# Altium footprint library con-shallin.PCBLIB: 1 footprints
Each footprint in its own frame and in the unit in brackets; x right, y up, seen from the top. Pads: shape width x height; smd on the part's side, far side on the other; paste and mask are expansions set on the pad; w line width, h text height; cw(c..) or ccw(c..) is an arc to the next point about the centre after c.
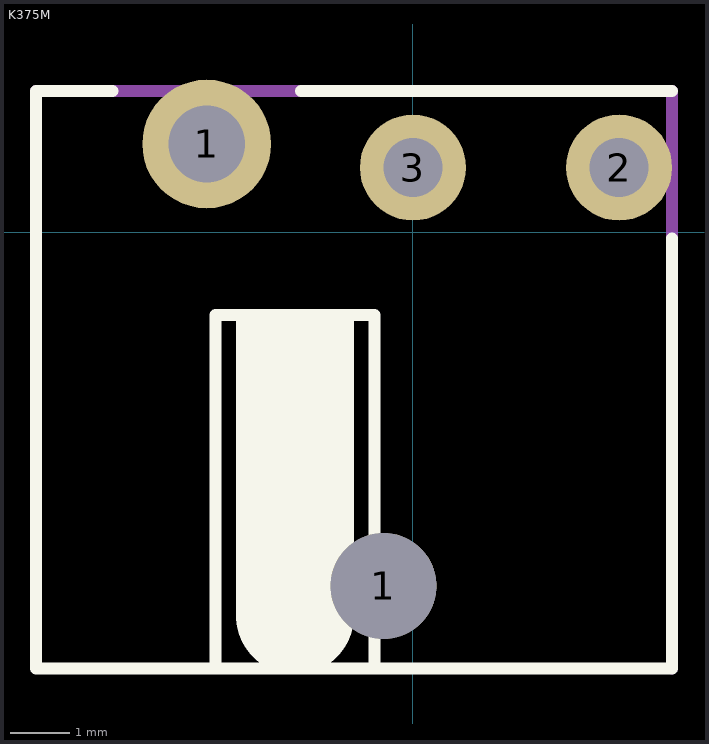
[diagram p0: the footprint, top view; thin cyan lines are the x and y axes]

## K375M [mm]
pads (4):
  round 2.184 hole 1.3: 1(-3.5,1.5)
  round 1.8 hole 1.8: 1(-0.5,-6)
  round 1.8 hole 1: 2(3.5,1.1) 3(0,1.1)
Top Overlay:
  rectangle: -3,-3 -1,-1.5
  lines w0.203: -5.1,2.4 -6.4,2.4 -6.4,-7.4 4.4,-7.4 4.4,-0.1 ; -3.35,-7.4 -3.35,-1.4 -0.65,-1.4 -0.65,-7.4 ; -1.9,2.4 4.4,2.4
  lines w2: -2,-6.5 -2,-3
Mechanical 16:
  lines w0.203: -6.4,2.4 4.4,2.4 4.4,-7.4